# Altium footprint library Components - 30.01.24 - 14.10.PcbLib: 4 footprints
Each footprint in its own frame and in the unit in brackets; x right, y up, seen from the top. Pads: shape width x height; smd on the part's side, far side on the other; paste and mask are expansions set on the pad; w line width, h text height; cw(c..) or ccw(c..) is an arc to the next point about the centre after c.
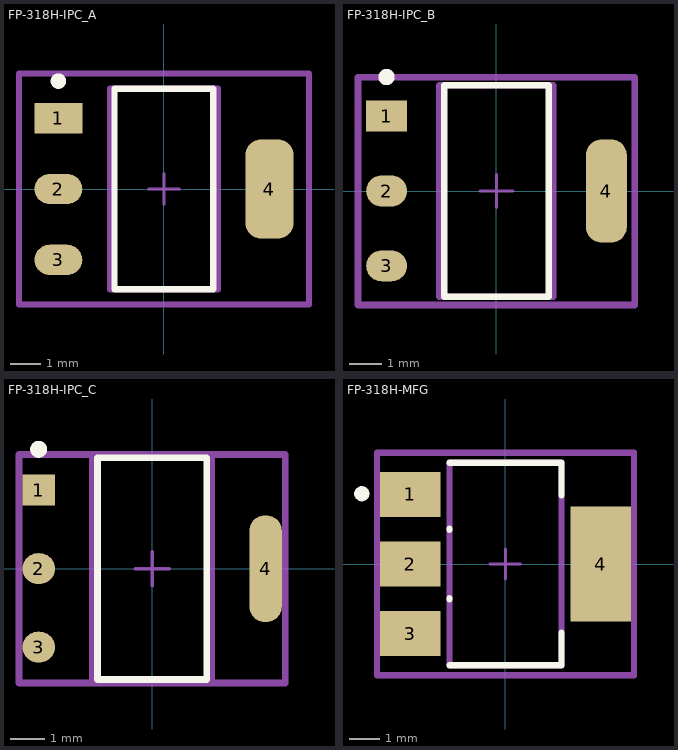
[diagram p0: the footprints below, top view; thin cyan lines are the x and y axes]

## FP-318H-IPC_A [mm]
pads (4):
  rect 1.554x0.989 smd paste+0 mask+0: 1(-3.425,2.3)
  rrect100% 1.554x0.989 smd paste+0 mask+0: 2(-3.425,0) 3(-3.425,-2.3)
  rrect64% 1.554x3.212 smd paste+0 mask+0: 4(3.425,0)
Top Overlay:
  circle w0.25: c-3.425,3.5 r0.125
  lines w0.2: -1.6,-3.25 1.6,-3.25 1.6,3.25 -1.6,3.25 -1.6,-3.25
Top Assembly:
  lines w0.2: -4.702,-3.75 4.702,-3.75 4.702,3.75 -4.702,3.75 -4.702,-3.75
  text ".Designator" at 0,-0.001 h1
Top 3D Body:
  lines w0.2: -1.75,-3.25 1.75,-3.25 1.75,3.25 -1.75,3.25 -1.75,-3.25
Top Courtyard:
  lines w0.2: -4.702,-3.75 4.702,-3.75 4.702,3.75 -4.702,3.75 -4.702,-3.75
Top Component Center:
  lines w0.1: -0.5,0 0.5,0 ; 0,-0.5 0,0.5

## FP-318H-IPC_B [mm]
pads (4):
  rect 1.254x0.949 smd paste+0 mask+0: 1(-3.375,2.3)
  rrect100% 1.254x0.949 smd paste+0 mask+0: 2(-3.375,0) 3(-3.375,-2.3)
  rrect76% 1.254x3.172 smd paste+0 mask+0: 4(3.375,0)
Top Overlay:
  circle w0.25: c-3.375,3.5 r0.125
  lines w0.2: -1.6,-3.25 1.6,-3.25 1.6,3.25 -1.6,3.25 -1.6,-3.25
Top Assembly:
  lines w0.2: -4.252,-3.5 4.252,-3.5 4.252,3.5 -4.252,3.5 -4.252,-3.5
  text ".Designator" at 0,-0.001 h1
Top 3D Body:
  lines w0.2: -1.75,-3.25 1.75,-3.25 1.75,3.25 -1.75,3.25 -1.75,-3.25
Top Courtyard:
  lines w0.2: -4.252,-3.5 4.252,-3.5 4.252,3.5 -4.252,3.5 -4.252,-3.5
Top Component Center:
  lines w0.1: -0.5,0 0.5,0 ; 0,-0.5 0,0.5

## FP-318H-IPC_C [mm]
pads (4):
  rect 0.954x0.909 smd paste+0 mask+0: 1(-3.325,2.3)
  rrect100% 0.954x0.909 smd paste+0 mask+0: 2(-3.325,0) 3(-3.325,-2.3)
  rrect95% 0.954x3.132 smd paste+0 mask+0: 4(3.325,0)
Top Overlay:
  circle w0.25: c-3.325,3.5 r0.125
  lines w0.2: -1.6,-3.25 1.6,-3.25 1.6,3.25 -1.6,3.25 -1.6,-3.25
Top Assembly:
  lines w0.2: -3.902,-3.35 3.902,-3.35 3.902,3.35 -3.902,3.35 -3.902,-3.35
  text ".Designator" at 0,-0.001 h1
Top 3D Body:
  lines w0.2: -1.75,-3.25 1.75,-3.25 1.75,3.25 -1.75,3.25 -1.75,-3.25
Top Courtyard:
  lines w0.2: -3.902,-3.35 3.902,-3.35 3.902,3.35 -3.902,3.35 -3.902,-3.35
Top Component Center:
  lines w0.1: -0.5,0 0.5,0 ; 0,-0.5 0,0.5

## FP-318H-MFG [mm]
pads (4):
  rect 2x1.5 smd paste+0 mask+0: 1(-3.15,2.3) 2(-3.15,0) 3(-3.15,-2.3)
  rect 2x3.8 smd paste+0 mask+0: 4(3.15,0)
Top Overlay:
  circle w0.25: c-4.75,2.325 r0.125
  lines w0.2: -1.85,-3.35 1.85,-3.35 1.85,-2.275 ; -1.85,-1.175 -1.85,-1.125 ; -1.85,1.125 -1.85,1.175 ; -1.85,3.35 1.85,3.35 1.85,2.275
Top Assembly:
  lines w0.2: -4.25,-3.68 4.25,-3.68 4.25,3.68 -4.25,3.68 -4.25,-3.68
  text ".Designator" at 0,0.188 h1
Top 3D Body:
  lines w0.2: -1.85,-3.35 1.85,-3.35 1.85,3.35 -1.85,3.35 -1.85,-3.35
Top Courtyard:
  lines w0.2: -4.25,-3.68 4.25,-3.68 4.25,3.68 -4.25,3.68 -4.25,-3.68
Top Component Center:
  lines w0.1: -0.5,0 0.5,0 ; 0,-0.5 0,0.5
3D body "IC_ON_Semi_NCP1117LPST33T3G_eec.STEP": height 0.25, standoff 0, extent -4.25,-3.68 4.25,3.68